# Altium footprint library PcbLib.PcbLib: 32 footprints (part 2 of 2)
Each footprint in its own frame and in the unit in brackets; x right, y up, seen from the top. Pads: shape width x height; smd on the part's side, far side on the other; paste and mask are expansions set on the pad; w line width, h text height; cw(c..) or ccw(c..) is an arc to the next point about the centre after c.
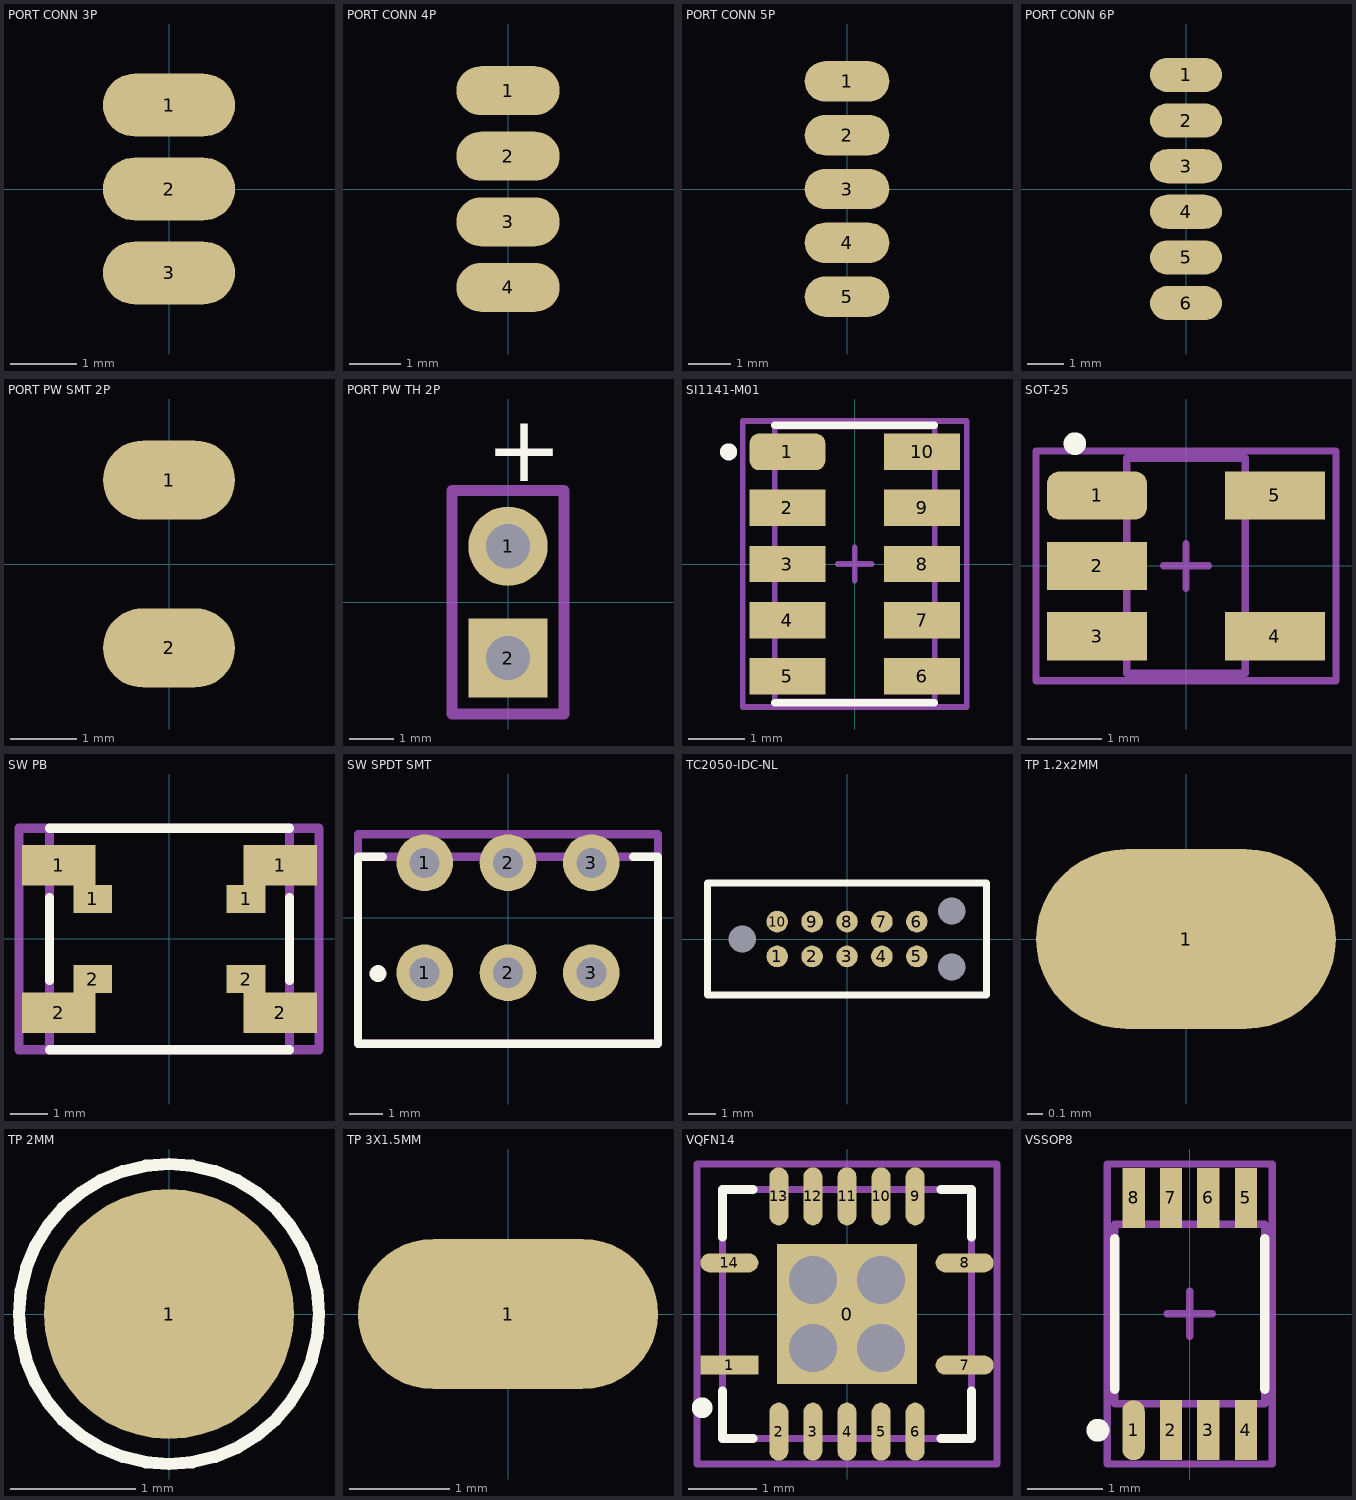
[diagram p1: the footprints below, top view; thin cyan lines are the x and y axes]

## PORT CONN 3P [mm] "Body 1.2x2mm"
pads (3):
  oval 2x0.95 smd paste-10: 1(0,1.27) 2(0,0) 3(0,-1.27)

## PORT CONN 4P [mm] "Body 1.2x2mm"
pads (4):
  oval 2x0.95 smd paste-10: 1(0,1.905) 2(0,0.635) 3(0,-0.635) 4(0,-1.905)

## PORT CONN 5P [mm] "Body 1.2x2mm"
pads (5):
  oval 2x0.95 smd paste-10: 1(0,2.54) 2(0,1.27) 3(0,0) 4(0,-1.27) 5(0,-2.54)

## PORT CONN 6P [mm] "Body 1.2x2mm"
pads (6):
  oval 2x0.95 smd paste-10: 1(0,3.175) 2(0,1.905) 3(0,0.635) 4(0,-0.635) 5(0,-1.905) 6(0,-3.175)

## PORT PW SMT 2P [mm] "Body 1.2x2mm"
pads (2):
  oval 2x1.2 smd paste-10: 1(0,1.27) 2(0,-1.27)

## PORT PW TH 2P [mm]
pads (2):
  round 1.8 hole 1: 1(0,1.27)
  rect 1.8x1.8 hole 1: 2(0,-1.27)
Top Overlay:
  text "+" at -0.5,2.75 h1.52
Mechanical 13:
  lines w0.254: -1.27,-2.54 1.27,-2.54 1.27,2.54 -1.27,2.54 -1.27,-2.54
Mechanical 15:
  lines w0.254: -1.27,-2.54 -1.27,2.54 1.27,2.54 1.27,-2.54 -1.27,-2.54

## SI1141-M01 [mm] "Body 4.9x2.85mm"
height 1.2
pads (10):
  rrect50% 1.35x0.65 smd: 1(-1.2,2)
  rect 1.35x0.65 smd: 2(-1.2,1) 3(-1.2,0) 4(-1.2,-1) 5(-1.2,-2) 6(1.2,-2) 7(1.2,-1) 8(1.2,0) 9(1.2,1) 10(1.2,2)
Top Overlay:
  circle w0.254: c-2.25,2 r0.025
  lines w0.127: -1.425,-2.475 1.425,-2.475 ; -1.425,2.475 1.425,2.475
Mechanical 13:
  lines w0.1: -1.425,-2.45 -1.425,2.45 1.425,2.45 1.425,-2.45 -1.425,-2.45
Mechanical 15:
  lines w0.1: -0.3,0 0.3,0 ; 0,-0.3 0,0.3 ; -2,-2.55 -2,2.55 2,2.55 2,-2.55 -2,-2.55
3D body: height 1.3, standoff 0, extent -1.425,-2.45 1.425,2.45

## SOT-25 [mm] "Body 2.9x2.8mm"
height 1.1
pads (5):
  rrect50% 1.35x0.65 smd: 1(-1.2,0.95)
  rect 1.35x0.65 smd: 2(-1.2,0) 3(-1.2,-0.95) 4(1.2,-0.95) 5(1.2,0.95)
Top Overlay:
  circle w0.254: c-1.5,1.65 r0.025
Mechanical 13:
  lines w0.1: -0.8,-1.45 0.8,-1.45 0.8,1.45 -0.8,1.45 -0.8,-1.45
Mechanical 15:
  lines w0.1: -0.3,0 0.3,0 ; 0,-0.3 0,0.3 ; -2.025,-1.55 2.025,-1.55 2.025,1.55 -2.025,1.55 -2.025,-1.55
3D body: height 1.3, standoff 0, extent -0.8,-1.45 0.8,1.45

## SW PB [mm] "Switch"
pads (8):
  rect 2x1.1 smd: 1(-3,2) 1(3,2) 2(-3,-2) 2(3,-2)
  rect 1.05x0.75 smd: 1(-2.075,1.085) 1(2.075,1.085) 2(-2.075,-1.085) 2(2.075,-1.085)
Top Overlay:
  lines w0.254: -3.25,-3 3.25,-3 ; -3.25,-1.125 -3.25,1.125 ; -3.25,3 3.25,3 ; 3.25,-1.125 3.25,1.125
Mechanical 13:
  lines w0.254: -3.25,-3 3.25,-3 3.25,3 -3.25,3 -3.25,-3
Mechanical 15:
  lines w0.254: -4.075,-3 -4.075,3 4.05,3 4.05,-3 -4.075,-3
3D body: height 2.5, standoff 0, extent -3.25,-3 3.25,3

## SW SPDT SMT [mm] "Switch"
pads (6):
  round 1.7 hole 0.9: 1(-2.5,-1.65) 1(-2.5,1.65) 2(0,-1.65) 2(0,1.65) 3(2.5,-1.65) 3(2.5,1.65)
Top Overlay:
  circle w0.254: c-3.9,-1.675 r0.127
  lines w0.254: -3.75,1.825 -4.5,1.825 -4.5,-3.775 4.5,-3.775 4.5,1.825 3.75,1.825
Mechanical 13:
  lines w0.254: 4.5,-3.775 4.5,1.825 -4.5,1.825 -4.5,-3.775 4.5,-3.775 ; 4.5,-3.775 4.5,-3.775
Mechanical 15:
  lines w0.254: -4.5,-3.775 4.45,-3.775 4.5,-3.725 4.5,2.5 -4.5,2.5 -4.5,-3.775
3D body "js202011aqn.stp": height 3.22, standoff -3.28, extent -4.5,-3.775 4.5,1.825

## TC2050-IDC-NL [mil] "Programming pads"
pads (13):
  round 0 hole 39 unplated: 0(-150,0) 0(150,-40) 0(150,40)
  round 31 smd paste-50: 1(-100,-25) 2(-50,-25) 3(0,-25) 4(50,-25) 5(100,-25) 6(100,25) 7(50,25) 8(0,25) 9(-50,25) 10(-100,25)
Top Overlay:
  lines w10: -200,-80 -200,80 200,80 200,-80 -200,-80
Bottom Overlay:
  lines w10: -215,-100 -215,100 215,100 215,-100 -215,-100

## TP 1.2x2MM [mm] "Body 1.2x2mm"
pads (1):
  oval 2x1.2 smd paste-10: 1(0,0)

## TP 2MM [mm] "Test point 2mm"
pads (1):
  round 2 smd paste-10: 1(0,0)
Top Overlay:
  circle w0.1: c0,0 r1.2

## TP 3X1.5MM [mm]
pads (1):
  oval 3x1.5 smd: 1(0,0)

## VQFN14 [mm] "Body 3.65x3.65mm"
height 1
pads (15):
  rect 2.05x2.05 smd: 0(0,0)
  rect 0.85x0.28 smd mask+0.05: 1(-1.725,-0.75)
  oval 0.28x0.85 smd mask+0.05: 2(-1,-1.725) 3(-0.5,-1.725) 4(0,-1.725) 5(0.5,-1.725) 6(1,-1.725) 9(1,1.725) 10(0.5,1.725) 11(0,1.725) 12(-0.5,1.725) 13(-1,1.725)
  oval 0.85x0.28 smd mask+0.05: 7(1.725,-0.75) 8(1.725,0.75) 14(-1.725,0.75)
via -0.5,-0.5 diameter 0.7 hole 0.7
via 0.5,-0.5 diameter 0.7 hole 0.7
via 0.5,0.5 diameter 0.7 hole 0.7
via -0.5,0.5 diameter 0.7 hole 0.7
Top Overlay:
  circle w0.254: c-2.125,-1.375 r0.025
  lines w0.127: -1.825,-1.125 -1.825,-1.825 -1.375,-1.825 ; -1.825,1.125 -1.825,1.825 -1.375,1.825 ; 1.375,-1.825 1.825,-1.825 1.825,-1.125 ; 1.375,1.825 1.825,1.825 1.825,1.125
Mechanical 13:
  lines w0.1: -1.825,-1.825 -1.825,1.825 1.825,1.825 1.825,-1.825 -1.825,-1.825
Mechanical 15:
  lines w0.1: -0.5,0 0.5,0 ; 0,-0.5 0,0.5 ; -2.2,-2.2 -2.2,2.2 2.2,2.2 2.2,-2.2 -2.2,-2.2
3D body: height 1, standoff 0, extent -1.825,-1.825 1.825,1.825

## VSSOP8 [mm] "Body 2.1x2.4mm"
height 1
pads (8):
  oval 0.3x0.8 smd mask+0.05: 1(-0.75,-1.55)
  rect 0.3x0.8 smd mask+0.05: 2(-0.25,-1.55) 3(0.25,-1.55) 4(0.75,-1.55) 5(0.75,1.55) 6(0.25,1.55) 7(-0.25,1.55) 8(-0.75,1.55)
Top Overlay:
  circle w0.254: c-1.225,-1.55 r0.025
  lines w0.127: -1,-1 -1,1 ; 1,-1 1,1
Mechanical 13:
  lines w0.1: -1,-1.2 -1,1.2 1,1.2 1,-1.2 -1,-1.2
Mechanical 15:
  lines w0.1: -0.3,0 0.3,0 ; 0,-0.3 0,0.3 ; -1.1,-2 -1.1,2 1.1,2 1.1,-2 -1.1,-2
3D body: height 1, standoff 0, extent -1,-1.2 1,1.2